# Altium footprint library RES_TH_3W.PcbLib: 2 footprints
Each footprint in its own frame and in the unit in brackets; x right, y up, seen from the top. Pads: shape width x height; smd on the part's side, far side on the other; paste and mask are expansions set on the pad; w line width, h text height; cw(c..) or ccw(c..) is an arc to the next point about the centre after c.
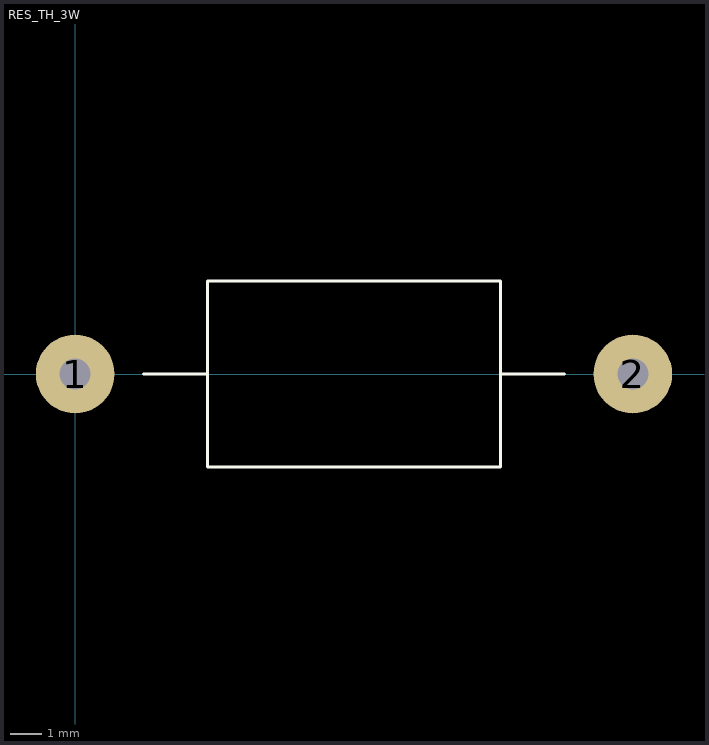
[diagram p0: the footprints below, top view; thin cyan lines are the x and y axes]

## PCBComponent_1 [mil]

## RES_TH_3W [mm]
pads (2):
  round 2.54 hole 1: 1(0,0) 2(18,0)
Top Overlay:
  lines w0.1: 2.2,0 4.275,0 ; 13.725,0 15.8,0 ; 4.275,0 4.275,3 13.725,3 13.725,-3 4.275,-3 4.275,0